# Altium footprint library Altium footprints, SMD Resistors, 2013-06-08-1.PcbLib: 23 footprints (part 1 of 2)
Each footprint in its own frame and in the unit in brackets; x right, y up, seen from the top. Pads: shape width x height; smd on the part's side, far side on the other; paste and mask are expansions set on the pad; w line width, h text height; cw(c..) or ccw(c..) is an arc to the next point about the centre after c.
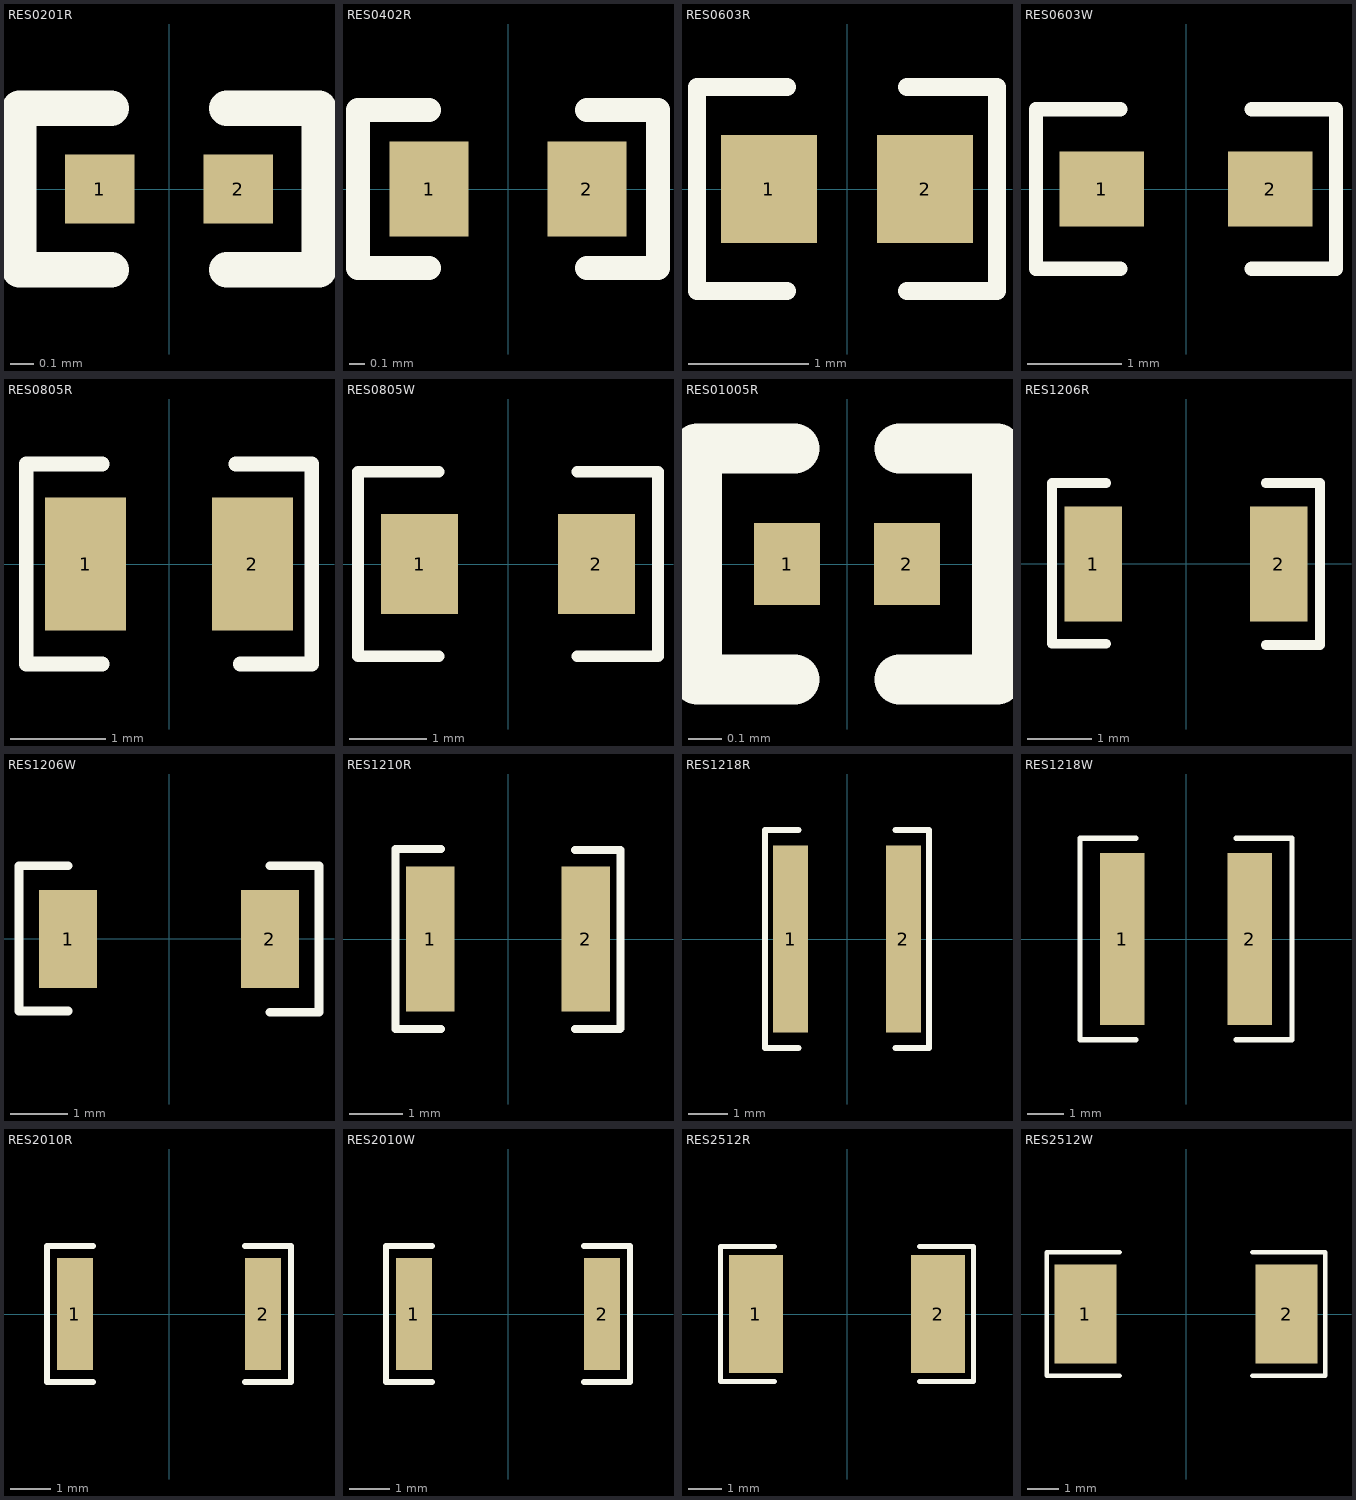
[diagram p0: the footprints below, top view; thin cyan lines are the x and y axes]

## RES0201R [mm] "resistor 0201 reflow soldering"
pads (2):
  rect 0.3x0.3 smd paste+0 mask+0.075: 1(-0.3,0) 2(0.3,0)
Top Overlay:
  lines w0.152: -0.25,-0.35 -0.65,-0.35 -0.65,0.35 -0.25,0.35 ; 0.25,-0.35 0.65,-0.35 0.65,0.35 0.25,0.35
3D body: height 0.3, standoff 0, extent -0.3,-0.15 0.3,0.15

## RES0402R [mm] "resistor 0402 reflow soldering"
pads (2):
  rect 0.5x0.6 smd: 1(-0.5,0) 2(0.5,0)
Top Overlay:
  lines w0.152: -0.5,-0.5 -0.95,-0.5 -0.95,0.5 -0.5,0.5 ; 0.5,-0.5 0.95,-0.5 0.95,0.5 0.5,0.5
3D body: height 0.3, standoff 0, extent -0.5,-0.25 0.5,0.25

## RES0603R [mm] "resistor 0603 reflow soldering"
pads (2):
  rect 0.8x0.9 smd: 1(-0.65,0) 2(0.65,0)
Top Overlay:
  lines w0.152: -0.5,-0.85 -1.25,-0.85 -1.25,0.85 -0.5,0.85 ; 0.5,-0.85 1.25,-0.85 1.25,0.85 0.5,0.85
3D body: height 0.45, standoff 0, extent -0.8,-0.4 0.8,0.4

## RES0603W [mm] "resistor 0603 wave soldering"
pads (2):
  rect 0.9x0.8 smd: 1(-0.9,0) 2(0.9,0)
Top Overlay:
  lines w0.152: -0.7,-0.85 -1.6,-0.85 -1.6,0.85 -0.7,0.85 ; 0.7,-0.85 1.6,-0.85 1.6,0.85 0.7,0.85
3D body: height 0.45, standoff 0, extent -0.8,-0.4 0.8,0.4

## RES0805R [mm] "resistor 0805 reflow soldering"
pads (2):
  rect 0.85x1.4 smd: 1(-0.875,0) 2(0.875,0)
Top Overlay:
  lines w0.152: -0.7,-1.05 -1.5,-1.05 -1.5,1.05 -0.7,1.05 ; 0.7,1.05 1.5,1.05 1.5,-1.05 0.75,-1.05
3D body: height 0.5, standoff 0, extent -1,-0.625 1,0.625

## RES0805W [mm] "resistor 0805 wave soldering"
pads (2):
  rect 1x1.3 smd: 1(-1.15,0) 2(1.15,0)
Top Overlay:
  lines w0.152: -0.9,-1.2 -1.95,-1.2 -1.95,1.2 -0.9,1.2 ; 0.9,-1.2 1.95,-1.2 1.95,1.2 0.9,1.2
3D body: height 0.5, standoff 0, extent -1,-0.625 1,0.625

## RES01005R [mm] "resistor 01005 reflow soldering"
pads (2):
  rect 0.2x0.25 smd paste+0 mask+0.05: 1(-0.182,0) 2(0.182,0)
Top Overlay:
  lines w0.152: -0.16,-0.35 -0.455,-0.35 -0.455,0.35 -0.16,0.35 ; 0.16,-0.35 0.455,-0.35 0.455,0.35 0.16,0.35
3D body: height 0.13, standoff 0, extent -0.2,-0.1 -0.1,0.1
3D body: height 0.13, standoff 0, extent -0.1,-0.1 0.1,0.1
3D body: height 0.13, standoff 0, extent 0.1,-0.1 0.2,0.1

## RES1206R [mm] "resistor 1206 reflow soldering"
pads (2):
  rect 0.9x1.8 smd: 1(-1.45,0) 2(1.45,0)
Top Overlay:
  lines w0.152: -1.25,-1.25 -2.1,-1.25 -2.1,1.27 -1.25,1.27 ; 1.25,-1.27 2.1,-1.27 2.1,1.27 1.25,1.27
3D body: height 0.55, standoff 0, extent -1.5,-0.775 1.6,0.777

## RES1206W [mm] "resistor 1206 wave soldering"
pads (2):
  rect 1x1.7 smd: 1(-1.75,0) 2(1.75,0)
Top Overlay:
  lines w0.152: -1.75,-1.25 -2.6,-1.25 -2.6,1.27 -1.75,1.27 ; 1.75,-1.27 2.6,-1.27 2.6,1.27 1.75,1.27
3D body: height 0.55, standoff 0, extent -1.55,-0.775 1.55,0.777

## RES1210R [mm] "resistor 1210 reflow soldering"
pads (2):
  rect 0.9x2.7 smd: 1(-1.45,0) 2(1.45,0)
Top Overlay:
  lines w0.152: -1.25,-1.68 -2.1,-1.68 -2.1,1.68 -1.25,1.68 ; 1.25,-1.68 2.09,-1.68 2.1,-1.67 2.1,1.66 1.25,1.66

## RES1218R [mm] "resistor 1218 reflow soldering"
pads (2):
  rect 0.9x4.8 smd: 1(-1.45,0) 2(1.45,0)
Top Overlay:
  lines w0.152: -1.25,-2.8 -2.1,-2.8 -2.1,2.8 -1.25,2.8 ; 1.25,-2.8 2.1,-2.8 2.1,2.8 1.25,2.8
3D body: height 0.55, standoff 0, extent -1.55,-2.3 1.55,2.306

## RES1218W [mm] "resistor 1218 wave soldering"
pads (2):
  rect 1.25x4.8 smd: 1(-1.775,0) 2(1.775,0)
Top Overlay:
  lines w0.152: -1.4,-2.8 -2.95,-2.8 -2.95,2.8 -1.4,2.8 ; 1.4,-2.8 2.95,-2.8 2.95,2.8 1.4,2.8
3D body: height 0.55, standoff 0, extent -1.55,-2.302 1.55,2.304

## RES2010R [mm] "resistor 2010 reflow soldering"
pads (2):
  rect 0.9x2.8 smd: 1(-2.35,0) 2(2.35,0)
Top Overlay:
  lines w0.152: -1.9,-1.7 -3.05,-1.7 -3.05,1.7 -1.9,1.7 ; 1.9,-1.7 3.05,-1.7 3.05,1.7 1.9,1.7
3D body: height 0.55, standoff 0, extent -2.45,-1.2 2.45,1.2

## RES2010W [mm] "resistor 2010 wave soldering"
pads (2):
  rect 0.9x2.8 smd: 1(-2.35,0) 2(2.35,0)
Top Overlay:
  lines w0.152: -1.9,-1.7 -3.05,-1.7 -3.05,1.7 -1.9,1.7 ; 1.9,-1.7 3.05,-1.7 3.05,1.7 1.9,1.7
3D body: height 0.55, standoff 0, extent -2.45,-1.2 2.45,1.2

## RES2512R [mm] "resistor 2512 reflow soldering"
pads (2):
  rect 1.6x3.5 smd: 1(-2.7,0) 2(2.7,0)
Top Overlay:
  lines w0.152: -2.15,-2 -3.75,-2 -3.75,2 -2.15,2 ; 2.15,-2 3.75,-2 3.75,2 2.15,2
3D body: height 0.55, standoff 0, extent -3.15,-1.55 3.15,1.55

## RES2512W [mm] "resistor 2512 wave soldering"
pads (2):
  rect 2x3.2 smd: 1(-3.25,0) 2(3.25,0)
Top Overlay:
  lines w0.152: -2.15,-2 -4.5,-2 -4.5,2 -2.15,2 ; 2.15,-2 4.5,-2 4.5,2 2.15,2
3D body: height 0.55, standoff 0, extent -3.15,-1.55 3.15,1.55